# Altium footprint library Wurth.PcbLib: 23 footprints (part 2 of 2)
Each footprint in its own frame and in the unit in brackets; x right, y up, seen from the top. Pads: shape width x height; smd on the part's side, far side on the other; paste and mask are expansions set on the pad; w line width, h text height; cw(c..) or ccw(c..) is an arc to the next point about the centre after c.
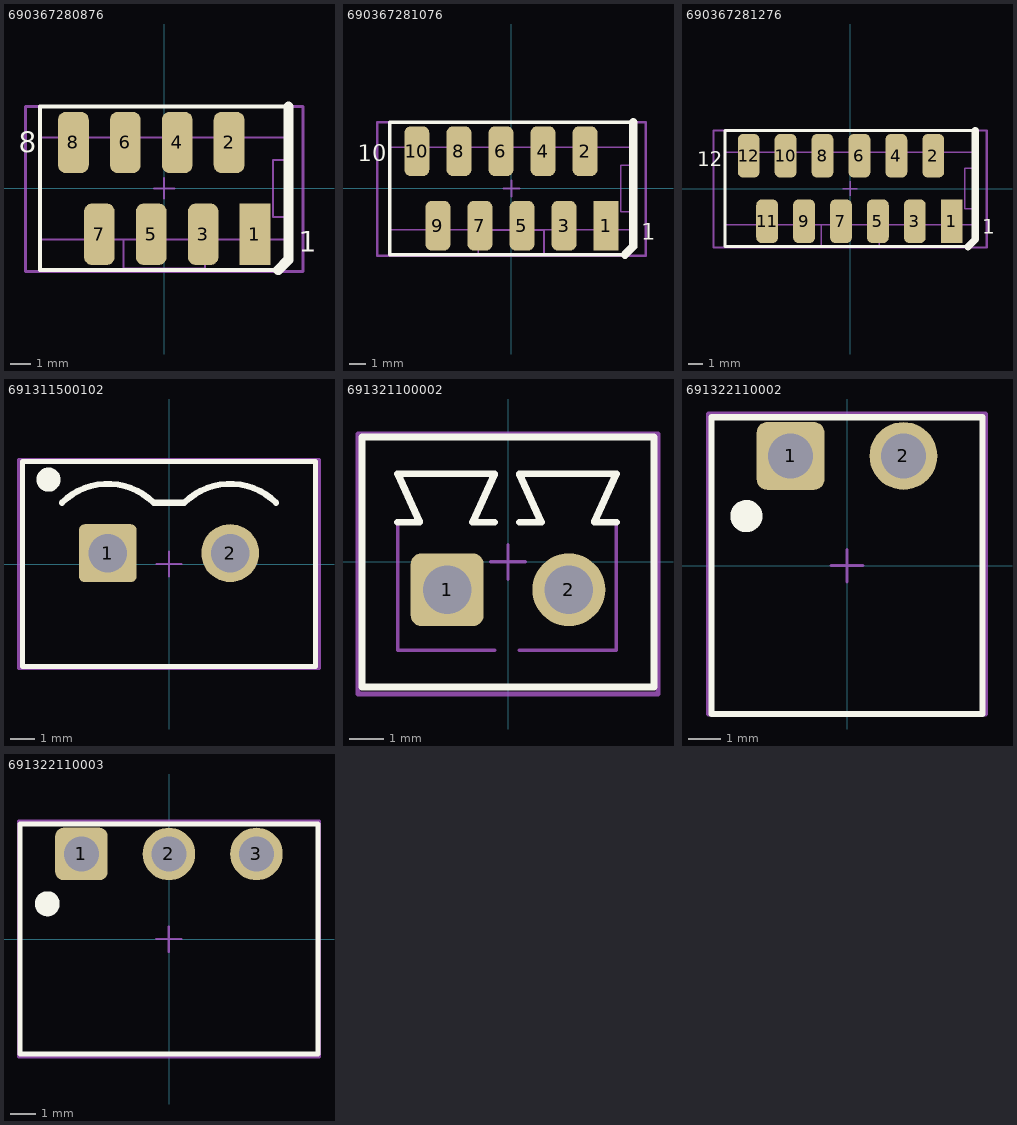
[diagram p1: the footprints below, top view; thin cyan lines are the x and y axes]

## 690367280876 [mm] "8 pins, SMT, straight, without Latch"
height 5.75
pads (8):
  rect 1.5x3 smd: 1(4.445,-2.25)
  rrect50% 1.5x3 smd: 2(3.175,2.25) 3(1.905,-2.25) 4(0.635,2.25) 5(-0.635,-2.25) 6(-1.905,2.25) 7(-3.175,-2.25) 8(-4.445,2.25)
Top Overlay:
  lines w0.2: 5.58,-4 -6.08,-4 -6.08,4 6.08,4
  lines w0.5: 5.58,-4 6.08,-3.5 6.08,4
  text "8" at -7.112,1.778 h1
  text "1" at 6.58,-3.1 h1
Mechanical 13:
  lines w0.1: -2,-2.5 -2,-3.937 2,-3.937 2,-2.5 ; -6.08,-2.5 -6.08,2.5 6.08,2.5 6.08,1.397 5.334,1.397 5.334,-1.397 6.08,-1.397 6.08,-2.5 -6.08,-2.5
Mechanical 15:
  lines w0.1: -0.5,0 0.5,0 ; 0,-0.5 0,0.5
  lines w0.15: -6.8,-4.064 -6.8,4 6.8,4 6.8,-4.064 -6.8,-4.064
Mechanical 17 (Mech17):
  text ".Designator" at -0.4,-0.2 h1.5
3D body "690367280876.stp": height 5.75, standoff 0, extent -6.08,-5 6.08,3.5

## 690367281076 [mm] "10 pins, SMT, straight, without Latch"
height 5.75
pads (10):
  rect 1.5x3 smd: 1(5.715,-2.25)
  rrect50% 1.5x3 smd: 2(4.445,2.25) 3(3.175,-2.25) 4(1.905,2.25) 5(0.635,-2.25) 6(-0.635,2.25) 7(-1.905,-2.25) 8(-3.175,2.25) 9(-4.445,-2.25) 10(-5.715,2.25)
Top Overlay:
  lines w0.2: 6.85,-4 -7.35,-4 -7.35,4 7.35,4
  lines w0.5: 6.85,-4 7.35,-3.5 7.35,4
  text "10" at -9.271,1.651 h1
  text "1" at 7.85,-3.1 h1
Mechanical 13:
  lines w0.1: -7.35,-2.5 7.35,-2.5 7.35,-1.397 6.604,-1.397 6.604,1.397 7.35,1.397 7.35,2.5 -7.35,2.5 -7.35,-2.5 ; -2,-3.937 -2,-2.507 1.965,-2.507 1.965,-3.937 -2,-3.937
Mechanical 15:
  lines w0.1: -0.5,0 0.5,0 ; 0,-0.5 0,0.5
  lines w0.15: -8.1,-4.064 8.1,-4.064 8.1,4 -8.1,4 -8.1,-4.064
Mechanical 17 (Mech17):
  text ".Designator" at -0.4,-0.2 h1.5
3D body "690367281076.stp": height 5.7, standoff -0.05, extent -7.35,-5 7.35,3.5

## 690367281276 [mm] "12 pins, SMT, straight, without Latch"
height 5.75
pads (12):
  rect 1.5x3 smd: 1(6.985,-2.25)
  rrect50% 1.5x3 smd: 2(5.715,2.25) 3(4.445,-2.25) 4(3.175,2.25) 5(1.905,-2.25) 6(0.635,2.25) 7(-0.635,-2.25) 8(-1.905,2.25) 9(-3.175,-2.25) 10(-4.445,2.25) 11(-5.715,-2.25) 12(-6.985,2.25)
Top Overlay:
  lines w0.2: 8.1,-4 -8.62,-4 -8.62,4 8.6,4
  lines w0.5: 8.1,-4 8.6,-3.5 8.6,4
  text "12" at -10.541,1.524 h1
  text "1" at 9.1,-3.1 h1
Mechanical 13:
  lines w0.1: -2,-2.507 -2,-3.937 2,-3.937 2,-2.507 ; -8.62,-2.5 8.62,-2.5 8.62,-1.397 7.874,-1.397 7.874,1.397 8.62,1.397 8.62,2.5 -8.62,2.5 -8.62,-2.5
Mechanical 15:
  lines w0.1: -0.5,0 0.5,0 ; 0,-0.5 0,0.5
  lines w0.15: -9.4,-4.064 -9.4,4 9.4,4 9.4,-4.064 -9.4,-4.064
Mechanical 17 (Mech17):
  text ".Designator" at -0.4,-0.2 h1.5
3D body "690367281276.stp": height 5.75, standoff 0, extent -8.62,-5 8.62,3.5

## 691311500102 [mm] "5,08mm - PCB Headers - Vertical - Closed ends -02p"
height 12
pads (2):
  rrect20% 2.4x2.4 hole 1.6: 1(-2.54,0.45)
  round 2.4 hole 1.6: 2(2.54,0.45)
Top Overlay:
  circle w0.5: c-5,3.5 r0.25
  lines w0.2: -6.08,-4.25 -6.08,4.25 6.08,4.25 6.08,-4.25 -6.08,-4.25
  lines w0.254: -4.445,2.54 cw(c-2.54,0.635) -0.635,2.54 0.635,2.54 cw(c2.54,0.635) 4.445,2.54
Mechanical 13:
  lines w0.1: -4.445,2.54 cw(c-2.54,0.635) -0.635,2.54 0.635,2.54 cw(c2.54,0.635) 4.445,2.54 ; -6.08,-4.25 6.08,-4.25 6.08,4.25 -6.08,4.25 -6.08,-4.25
Mechanical 15:
  lines w0.1: -0.5,0 0.5,0 ; 0,-0.5 0,0.5
  lines w0.15: -6.223,-4.318 -6.223,4.318 6.223,4.318 6.223,-4.318 -6.223,-4.318
Mechanical 17 (Mech17):
  text ".Designator" at -0.4,-0.2 h1.5
3D body "691311500102.stp": height 12.05, standoff -3.95, extent -6.08,-4.25 6.08,4.25

## 691321100002 [mm] "Vertical PCB Header, pitch 3.5mm, 02p"
height 9.2
pads (2):
  rrect30% 2.1x2.1 hole 1.4: 1(-1.75,-0.8)
  round 2.1 hole 1.4: 2(1.75,-0.8)
Top Overlay:
  lines w0.2: -3.175,1.143 -2.54,1.143 -3.175,2.54 -0.381,2.54 -1.016,1.143 -0.381,1.143 ; 0.325,1.143 0.96,1.143 0.325,2.54 3.119,2.54 2.484,1.143 3.119,1.143 ; -4.2,-3.6 -4.2,3.6 4.2,3.6 4.2,-3.6 -4.2,-3.6
Mechanical 13:
  lines w0.1: -0.381,-2.54 -3.175,-2.54 -3.175,1.143 -2.54,1.143 -3.175,2.54 -0.381,2.54 -1.016,1.143 -0.381,1.143 ; 0.325,-2.54 3.119,-2.54 3.119,1.143 2.484,1.143 3.119,2.54 0.325,2.54 0.96,1.143 0.325,1.143 ; -4.2,-3.6 4.2,-3.6 4.2,3.6 -4.2,3.6 -4.2,-3.6
Mechanical 15:
  lines w0.1: -0.5,0 0.5,0 ; 0,-0.5 0,0.5
  lines w0.15: -4.318,-3.8 -4.318,3.683 4.318,3.683 4.318,-3.8 -4.318,-3.8
Mechanical 17 (Mech17):
  text ".Designator" at -0.4,-0.2 h1.5
3D body "691321100002.stp": height 9.3, standoff -3.4, extent -4.2,-3.6 4.2,3.6

## 691322110002 [mm] "Horizontal PCB Header, pitch 3.5mm, 02p"
height 7
pads (2):
  rrect30% 2.1x2.1 hole 1.4: 1(-1.75,3.4)
  round 2.1 hole 1.4: 2(1.75,3.4)
Top Overlay:
  circle w0.5: c-3.12,1.536 r0.25
  lines w0.2: -4.2,-4.6 4.2,-4.6 4.2,4.6 -4.2,4.6 -4.2,-4.6
Mechanical 13:
  lines w0.1: -4.2,-4.572 4.2,-4.572 4.2,4.572 -4.2,4.572 -4.2,-4.572
Mechanical 15:
  lines w0.1: -0.5,0 0.5,0 ; 0,-0.5 0,0.5
  lines w0.15: -4.3,-4.6 -4.3,4.7 4.3,4.7 4.3,-4.6 -4.3,-4.6
Mechanical 17 (Mech17):
  text ".Designator" at -0.4,-0.2 h1.5
3D body "691322110002.stp": height 7.3, standoff -3.4, extent -4.2,-4.6 4.2,4.6

## 691322110003 [mm] "Horizontal PCB Header, pitch 3.5mm, 03p"
height 7
pads (3):
  rrect30% 2.1x2.1 hole 1.4: 1(-3.5,3.4)
  round 2.1 hole 1.4: 2(0,3.4) 3(3.5,3.4)
Top Overlay:
  circle w0.5: c-4.87,1.409 r0.25
  lines w0.2: -5.95,-4.6 5.95,-4.6 5.95,4.6 -5.95,4.6 -5.95,-4.6
Mechanical 13:
  lines w0.1: -5.969,-4.572 -5.969,4.572 5.969,4.572 5.969,-4.572 -5.969,-4.572
Mechanical 15:
  lines w0.1: -0.5,0 0.5,0 ; 0,-0.5 0,0.5
  lines w0.15: -6,-4.7 -6,4.7 6,4.7 6,-4.7 -6,-4.7
Mechanical 17 (Mech17):
  text ".Designator" at -0.4,-0.2 h1.5
3D body "691322110003.stp": height 7.3, standoff -3.4, extent -5.95,-4.6 5.95,4.6